# Altium schematic symbol library Power and Battery Management.SchLib: 645 symbols (part 3 of 15)
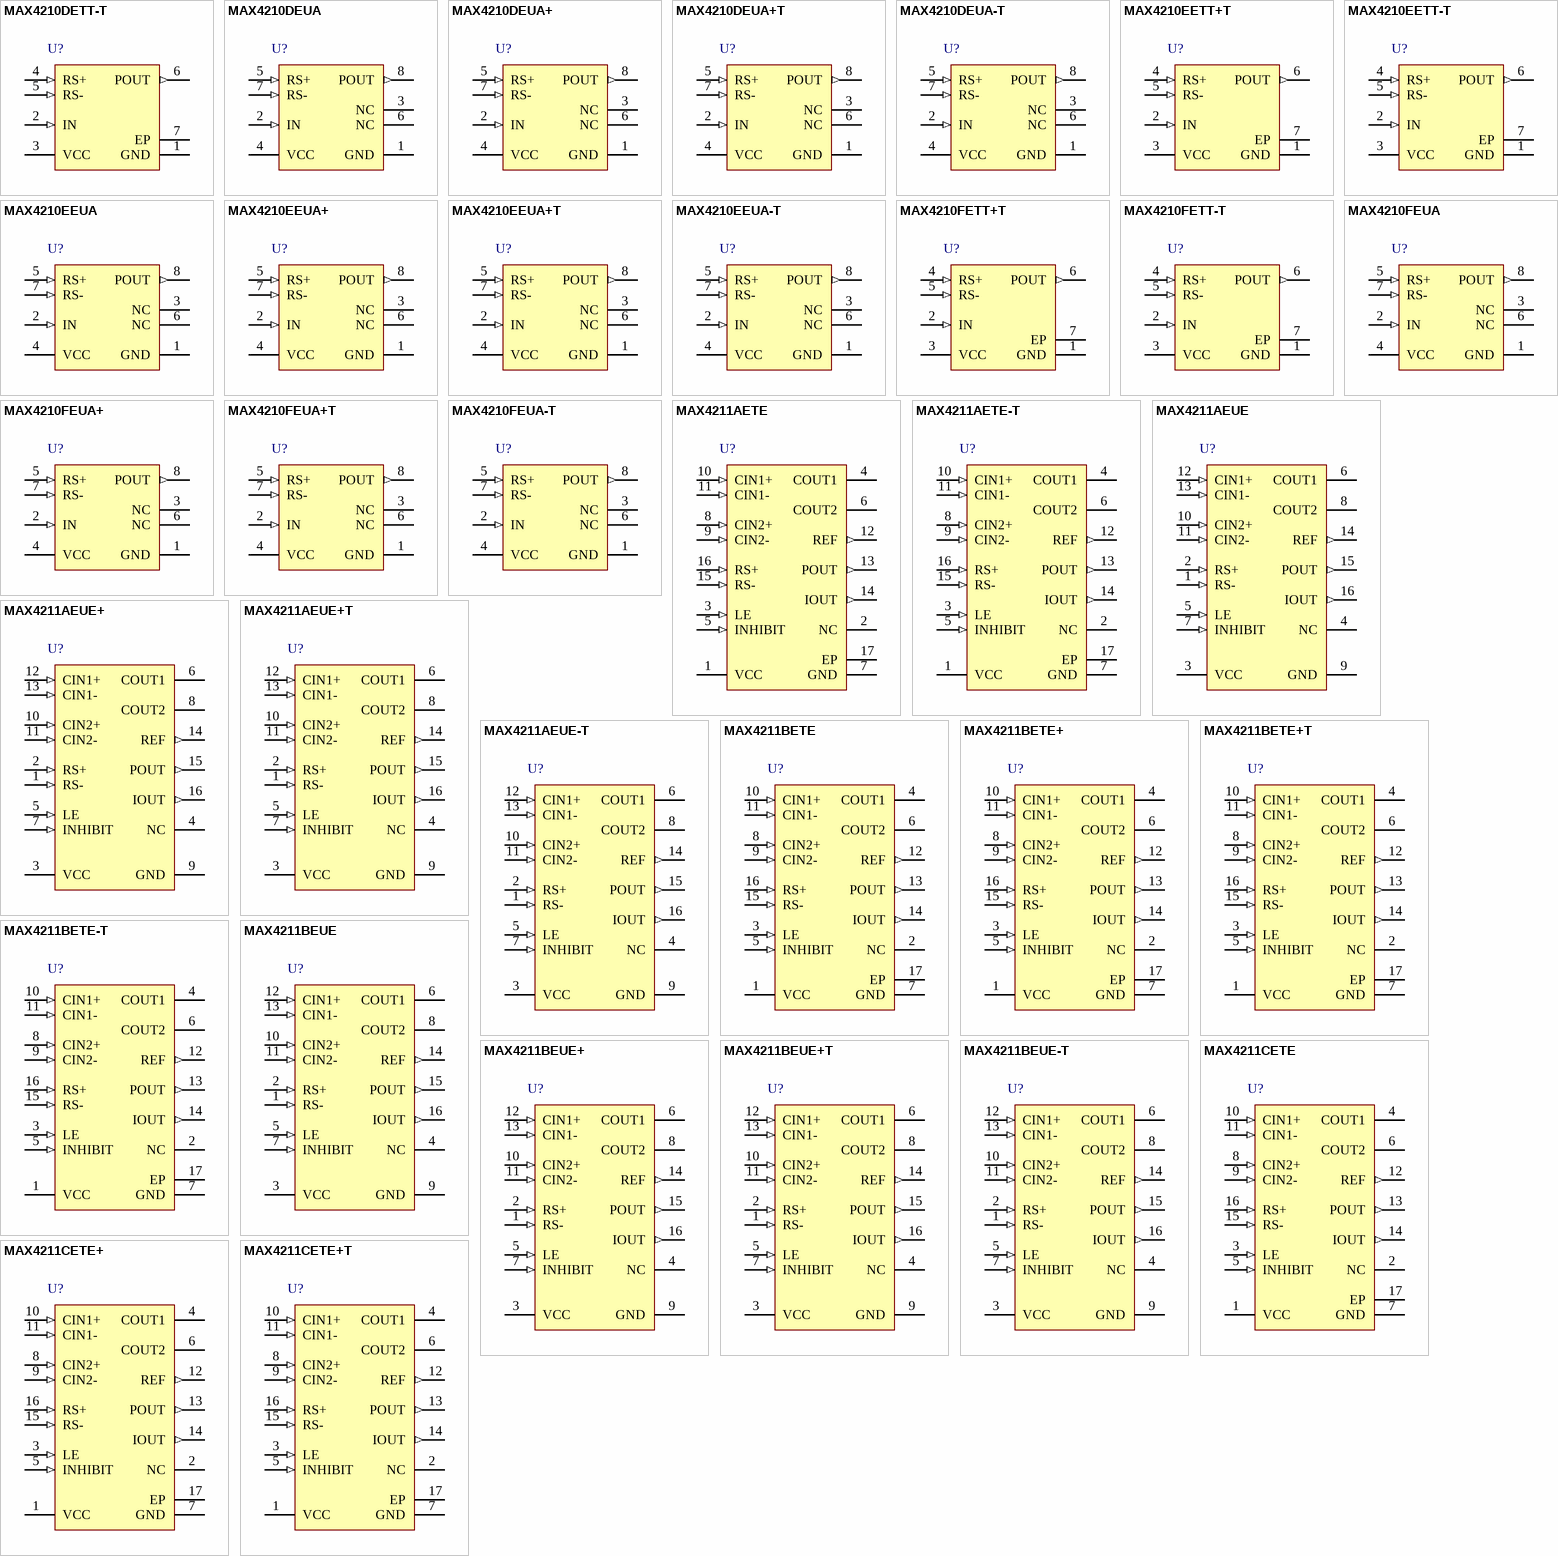
[diagram p21: symbols MAX4210DETT-T to MAX4211CETE+T]

## MAX4211AETE-T
designator U?
High-Side Power Monitor, Open-Drain Outputs, 16-Pin TQFN, -40°C to +85°C, Tape and Reel; DatasheetVersion: Rev 1, May-2005; PackageVersion: revJ, 2011; PackageReference: T1644-4; PackageDescription: 16-Pin Thin Quad Flatpack, No-Leads (TQFN), 4 x 4 x 0.75 mm Body, 0.65 mm Pitch, Exposed Pad; Code_JEDEC: MO-220WGGC; ComponentLink1Description: Manufacturer URL; ComponentLink1URL: http://www.maxim-ic.com; ComponentLink2Description: Datasheet; ComponentLink2URL: http://datasheets.maxim-ic.com/en/ds/MAX4210-MAX4211.pdf; ComponentLink3Description: Package Specification; ComponentLink3URL: http://pdfserv.maxim-ic.com/package_dwgs/21-0139.PDF
footprint T1644-4_N (QFN, 16-Leads, Body 4x4mm, Pitch 0.65mm, Thermal Pad 2.3x2.3mm, IPC Medium Density)
footprint T1644-4_L (QFN, 16-Leads, Body 4x4mm, Pitch 0.65mm, Thermal Pad 2.3x2.3mm, IPC High Density)
footprint T1644-4_M (QFN, 16-Leads, Body 4x4mm, Pitch 0.65mm, Thermal Pad 2.3x2.3mm, IPC Low Density)
pins: 1 VCC (power), 2 NC, 3 LE (in), 4 COUT1 (oc), 5 INHIBIT (in), 6 COUT2 (oc), 7 GND (power), 8 CIN2+ (in), 9 CIN2- (in), 10 CIN1+ (in), 11 CIN1- (in), 12 REF (out), 13 POUT (out), 14 IOUT (out), 15 RS- (in), 16 RS+ (in), 17 EP (power)

## MAX4211AEUE
designator U?
High-Side Power Monitor, Open-Drain Outputs, 16-Pin TSSOP, -40°C to +85°C; DatasheetVersion: Rev 1, May-2005; PackageVersion: revL, 2010; PackageReference: U16-2; PackageDescription: 16-Pin Thin Shrink Small-Outline Package, 4.4 mm Body, TSSOP; Code_JEDEC: MO-153-AB; ComponentLink1Description: Manufacturer URL; ComponentLink1URL: http://www.maxim-ic.com; ComponentLink2Description: Datasheet; ComponentLink2URL: http://datasheets.maxim-ic.com/en/ds/MAX4210-MAX4211.pdf; ComponentLink3Description: Package Specification; ComponentLink3URL: http://pdfserv.maxim-ic.com/package_dwgs/21-0066.PDF
footprint U16-2_N (TSOP, 14-Leads, Body 5x4.4mm, Pitch 0.65mm, IPC Medium Density)
footprint U16-2_L (TSOP, 14-Leads, Body 5x4.4mm, Pitch 0.65mm, IPC High Density)
footprint U16-2_M (TSOP, 14-Leads, Body 5x4.4mm, Pitch 0.65mm, IPC Low Density)
pins: 1 RS- (in), 2 RS+ (in), 3 VCC (power), 4 NC, 5 LE (in), 6 COUT1 (oc), 7 INHIBIT (in), 8 COUT2 (oc), 9 GND (power), 10 CIN2+ (in), 11 CIN2- (in), 12 CIN1+ (in), 13 CIN1- (in), 14 REF (out), 15 POUT (out), 16 IOUT (out)

## MAX4211AEUE+
designator U?
High-Side Power Monitor, Open-Drain Outputs, 16-Pin TSSOP, -40°C to +85°C, Pb-Free; DatasheetVersion: Rev 1, May-2005; PackageVersion: revL, 2010; PackageReference: U16+2; PackageDescription: 16-Pin Thin Shrink Small-Outline Package, 4.4 mm Body, TSSOP, Pb-Free; Code_JEDEC: MO-153-AB; ComponentLink1Description: Manufacturer URL; ComponentLink1URL: http://www.maxim-ic.com; ComponentLink2Description: Datasheet; ComponentLink2URL: http://datasheets.maxim-ic.com/en/ds/MAX4210-MAX4211.pdf; ComponentLink3Description: Package Specification; ComponentLink3URL: http://pdfserv.maxim-ic.com/package_dwgs/21-0066.PDF
footprint U16+2_N (TSOP, 14-Leads, Body 5x4.4mm, Pitch 0.65mm, IPC Medium Density)
footprint U16+2_L (TSOP, 14-Leads, Body 5x4.4mm, Pitch 0.65mm, IPC High Density)
footprint U16+2_M (TSOP, 14-Leads, Body 5x4.4mm, Pitch 0.65mm, IPC Low Density)
pins: 1 RS- (in), 2 RS+ (in), 3 VCC (power), 4 NC, 5 LE (in), 6 COUT1 (oc), 7 INHIBIT (in), 8 COUT2 (oc), 9 GND (power), 10 CIN2+ (in), 11 CIN2- (in), 12 CIN1+ (in), 13 CIN1- (in), 14 REF (out), 15 POUT (out), 16 IOUT (out)

## MAX4211AEUE+T
designator U?
High-Side Power Monitor, Open-Drain Outputs, 16-Pin TSSOP, -40°C to +85°C, Pb-Free, Tape and Reel; DatasheetVersion: Rev 1, May-2005; PackageVersion: revL, 2010; PackageReference: U16+2; PackageDescription: 16-Pin Thin Shrink Small-Outline Package, 4.4 mm Body, TSSOP, Pb-Free; Code_JEDEC: MO-153-AB; ComponentLink1Description: Manufacturer URL; ComponentLink1URL: http://www.maxim-ic.com; ComponentLink2Description: Datasheet; ComponentLink2URL: http://datasheets.maxim-ic.com/en/ds/MAX4210-MAX4211.pdf; ComponentLink3Description: Package Specification; ComponentLink3URL: http://pdfserv.maxim-ic.com/package_dwgs/21-0066.PDF
footprint U16+2_N (TSOP, 14-Leads, Body 5x4.4mm, Pitch 0.65mm, IPC Medium Density)
footprint U16+2_L (TSOP, 14-Leads, Body 5x4.4mm, Pitch 0.65mm, IPC High Density)
footprint U16+2_M (TSOP, 14-Leads, Body 5x4.4mm, Pitch 0.65mm, IPC Low Density)
pins: 1 RS- (in), 2 RS+ (in), 3 VCC (power), 4 NC, 5 LE (in), 6 COUT1 (oc), 7 INHIBIT (in), 8 COUT2 (oc), 9 GND (power), 10 CIN2+ (in), 11 CIN2- (in), 12 CIN1+ (in), 13 CIN1- (in), 14 REF (out), 15 POUT (out), 16 IOUT (out)

## MAX4211AEUE-T
designator U?
High-Side Power Monitor, Open-Drain Outputs, 16-Pin TSSOP, -40°C to +85°C, Tape and Reel; DatasheetVersion: Rev 1, May-2005; PackageVersion: revL, 2010; PackageReference: U16-2; PackageDescription: 16-Pin Thin Shrink Small-Outline Package, 4.4 mm Body, TSSOP; Code_JEDEC: MO-153-AB; ComponentLink1Description: Manufacturer URL; ComponentLink1URL: http://www.maxim-ic.com; ComponentLink2Description: Datasheet; ComponentLink2URL: http://datasheets.maxim-ic.com/en/ds/MAX4210-MAX4211.pdf; ComponentLink3Description: Package Specification; ComponentLink3URL: http://pdfserv.maxim-ic.com/package_dwgs/21-0066.PDF
footprint U16-2_N (TSOP, 14-Leads, Body 5x4.4mm, Pitch 0.65mm, IPC Medium Density)
footprint U16-2_L (TSOP, 14-Leads, Body 5x4.4mm, Pitch 0.65mm, IPC High Density)
footprint U16-2_M (TSOP, 14-Leads, Body 5x4.4mm, Pitch 0.65mm, IPC Low Density)
pins: 1 RS- (in), 2 RS+ (in), 3 VCC (power), 4 NC, 5 LE (in), 6 COUT1 (oc), 7 INHIBIT (in), 8 COUT2 (oc), 9 GND (power), 10 CIN2+ (in), 11 CIN2- (in), 12 CIN1+ (in), 13 CIN1- (in), 14 REF (out), 15 POUT (out), 16 IOUT (out)

## MAX4211BETE
designator U?
High-Side Power Monitor, Open-Drain Outputs, 16-Pin TQFN, -40°C to +85°C; DatasheetVersion: Rev 1, May-2005; PackageVersion: revJ, 2011; PackageReference: T1644-4; PackageDescription: 16-Pin Thin Quad Flatpack, No-Leads (TQFN), 4 x 4 x 0.75 mm Body, 0.65 mm Pitch, Exposed Pad; Code_JEDEC: MO-220WGGC; ComponentLink1Description: Manufacturer URL; ComponentLink1URL: http://www.maxim-ic.com; ComponentLink2Description: Datasheet; ComponentLink2URL: http://datasheets.maxim-ic.com/en/ds/MAX4210-MAX4211.pdf; ComponentLink3Description: Package Specification; ComponentLink3URL: http://pdfserv.maxim-ic.com/package_dwgs/21-0139.PDF
footprint T1644-4_N (QFN, 16-Leads, Body 4x4mm, Pitch 0.65mm, Thermal Pad 2.3x2.3mm, IPC Medium Density)
footprint T1644-4_L (QFN, 16-Leads, Body 4x4mm, Pitch 0.65mm, Thermal Pad 2.3x2.3mm, IPC High Density)
footprint T1644-4_M (QFN, 16-Leads, Body 4x4mm, Pitch 0.65mm, Thermal Pad 2.3x2.3mm, IPC Low Density)
pins: 1 VCC (power), 2 NC, 3 LE (in), 4 COUT1 (oc), 5 INHIBIT (in), 6 COUT2 (oc), 7 GND (power), 8 CIN2+ (in), 9 CIN2- (in), 10 CIN1+ (in), 11 CIN1- (in), 12 REF (out), 13 POUT (out), 14 IOUT (out), 15 RS- (in), 16 RS+ (in), 17 EP (power)

## MAX4211BETE+
designator U?
High-Side Power Monitor, Open-Drain Outputs, 16-Pin TQFN, -40°C to +85°C, Pb-Free; DatasheetVersion: Rev 1, May-2005; PackageVersion: revK, 2011; PackageReference: T1644+4; PackageDescription: 16-Pin Thin Quad Flatpack, No-Leads (TQFN), 4 x 4 x 0.75 mm Body, 0.65 mm Pitch, Exposed Pad, Pb-Free; Code_JEDEC: MO-220WGGC; ComponentLink1Description: Manufacturer URL; ComponentLink1URL: http://www.maxim-ic.com; ComponentLink2Description: Datasheet; ComponentLink2URL: http://datasheets.maxim-ic.com/en/ds/MAX4210-MAX4211.pdf; ComponentLink3Description: Package Specification; ComponentLink3URL: http://pdfserv.maxim-ic.com/package_dwgs/21-0139.PDF
footprint T1644+4_N (QFN, 16-Leads, Body 4x4mm, Pitch 0.65mm, Thermal Pad 2.3x2.3mm, IPC Medium Density)
footprint T1644+4_L (QFN, 16-Leads, Body 4x4mm, Pitch 0.65mm, Thermal Pad 2.3x2.3mm, IPC High Density)
footprint T1644+4_M (QFN, 16-Leads, Body 4x4mm, Pitch 0.65mm, Thermal Pad 2.3x2.3mm, IPC Low Density)
pins: 1 VCC (power), 2 NC, 3 LE (in), 4 COUT1 (oc), 5 INHIBIT (in), 6 COUT2 (oc), 7 GND (power), 8 CIN2+ (in), 9 CIN2- (in), 10 CIN1+ (in), 11 CIN1- (in), 12 REF (out), 13 POUT (out), 14 IOUT (out), 15 RS- (in), 16 RS+ (in), 17 EP (power)

## MAX4211BETE+T
designator U?
High-Side Power Monitor, Open-Drain Outputs, 16-Pin TQFN, -40°C to +85°C, Pb-Free, Tape and Reel; DatasheetVersion: Rev 1, May-2005; PackageVersion: revK, 2011; PackageReference: T1644+4; PackageDescription: 16-Pin Thin Quad Flatpack, No-Leads (TQFN), 4 x 4 x 0.75 mm Body, 0.65 mm Pitch, Exposed Pad, Pb-Free; Code_JEDEC: MO-220WGGC; ComponentLink1Description: Manufacturer URL; ComponentLink1URL: http://www.maxim-ic.com; ComponentLink2Description: Datasheet; ComponentLink2URL: http://datasheets.maxim-ic.com/en/ds/MAX4210-MAX4211.pdf; ComponentLink3Description: Package Specification; ComponentLink3URL: http://pdfserv.maxim-ic.com/package_dwgs/21-0139.PDF
footprint T1644+4_N (QFN, 16-Leads, Body 4x4mm, Pitch 0.65mm, Thermal Pad 2.3x2.3mm, IPC Medium Density)
footprint T1644+4_L (QFN, 16-Leads, Body 4x4mm, Pitch 0.65mm, Thermal Pad 2.3x2.3mm, IPC High Density)
footprint T1644+4_M (QFN, 16-Leads, Body 4x4mm, Pitch 0.65mm, Thermal Pad 2.3x2.3mm, IPC Low Density)
pins: 1 VCC (power), 2 NC, 3 LE (in), 4 COUT1 (oc), 5 INHIBIT (in), 6 COUT2 (oc), 7 GND (power), 8 CIN2+ (in), 9 CIN2- (in), 10 CIN1+ (in), 11 CIN1- (in), 12 REF (out), 13 POUT (out), 14 IOUT (out), 15 RS- (in), 16 RS+ (in), 17 EP (power)

## MAX4211BETE-T
designator U?
High-Side Power Monitor, Open-Drain Outputs, 16-Pin TQFN, -40°C to +85°C, Tape and Reel; DatasheetVersion: Rev 1, May-2005; PackageVersion: revJ, 2011; PackageReference: T1644-4; PackageDescription: 16-Pin Thin Quad Flatpack, No-Leads (TQFN), 4 x 4 x 0.75 mm Body, 0.65 mm Pitch, Exposed Pad; Code_JEDEC: MO-220WGGC; ComponentLink1Description: Manufacturer URL; ComponentLink1URL: http://www.maxim-ic.com; ComponentLink2Description: Datasheet; ComponentLink2URL: http://datasheets.maxim-ic.com/en/ds/MAX4210-MAX4211.pdf; ComponentLink3Description: Package Specification; ComponentLink3URL: http://pdfserv.maxim-ic.com/package_dwgs/21-0139.PDF
footprint T1644-4_N (QFN, 16-Leads, Body 4x4mm, Pitch 0.65mm, Thermal Pad 2.3x2.3mm, IPC Medium Density)
footprint T1644-4_L (QFN, 16-Leads, Body 4x4mm, Pitch 0.65mm, Thermal Pad 2.3x2.3mm, IPC High Density)
footprint T1644-4_M (QFN, 16-Leads, Body 4x4mm, Pitch 0.65mm, Thermal Pad 2.3x2.3mm, IPC Low Density)
pins: 1 VCC (power), 2 NC, 3 LE (in), 4 COUT1 (oc), 5 INHIBIT (in), 6 COUT2 (oc), 7 GND (power), 8 CIN2+ (in), 9 CIN2- (in), 10 CIN1+ (in), 11 CIN1- (in), 12 REF (out), 13 POUT (out), 14 IOUT (out), 15 RS- (in), 16 RS+ (in), 17 EP (power)

## MAX4211BEUE
designator U?
High-Side Power Monitor, Open-Drain Outputs, 16-Pin TSSOP, -40°C to +85°C; DatasheetVersion: Rev 1, May-2005; PackageVersion: revL, 2010; PackageReference: U16-2; PackageDescription: 16-Pin Thin Shrink Small-Outline Package, 4.4 mm Body, TSSOP; Code_JEDEC: MO-153-AB; ComponentLink1Description: Manufacturer URL; ComponentLink1URL: http://www.maxim-ic.com; ComponentLink2Description: Datasheet; ComponentLink2URL: http://datasheets.maxim-ic.com/en/ds/MAX4210-MAX4211.pdf; ComponentLink3Description: Package Specification; ComponentLink3URL: http://pdfserv.maxim-ic.com/package_dwgs/21-0066.PDF
footprint U16-2_N (TSOP, 14-Leads, Body 5x4.4mm, Pitch 0.65mm, IPC Medium Density)
footprint U16-2_L (TSOP, 14-Leads, Body 5x4.4mm, Pitch 0.65mm, IPC High Density)
footprint U16-2_M (TSOP, 14-Leads, Body 5x4.4mm, Pitch 0.65mm, IPC Low Density)
pins: 1 RS- (in), 2 RS+ (in), 3 VCC (power), 4 NC, 5 LE (in), 6 COUT1 (oc), 7 INHIBIT (in), 8 COUT2 (oc), 9 GND (power), 10 CIN2+ (in), 11 CIN2- (in), 12 CIN1+ (in), 13 CIN1- (in), 14 REF (out), 15 POUT (out), 16 IOUT (out)

## MAX4211BEUE+
designator U?
High-Side Power Monitor, Open-Drain Outputs, 16-Pin TSSOP, -40°C to +85°C, Pb-Free; DatasheetVersion: Rev 1, May-2005; PackageVersion: revL, 2010; PackageReference: U16+2; PackageDescription: 16-Pin Thin Shrink Small-Outline Package, 4.4 mm Body, TSSOP, Pb-Free; Code_JEDEC: MO-153-AB; ComponentLink1Description: Manufacturer URL; ComponentLink1URL: http://www.maxim-ic.com; ComponentLink2Description: Datasheet; ComponentLink2URL: http://datasheets.maxim-ic.com/en/ds/MAX4210-MAX4211.pdf; ComponentLink3Description: Package Specification; ComponentLink3URL: http://pdfserv.maxim-ic.com/package_dwgs/21-0066.PDF
footprint U16+2_N (TSOP, 14-Leads, Body 5x4.4mm, Pitch 0.65mm, IPC Medium Density)
footprint U16+2_L (TSOP, 14-Leads, Body 5x4.4mm, Pitch 0.65mm, IPC High Density)
footprint U16+2_M (TSOP, 14-Leads, Body 5x4.4mm, Pitch 0.65mm, IPC Low Density)
pins: 1 RS- (in), 2 RS+ (in), 3 VCC (power), 4 NC, 5 LE (in), 6 COUT1 (oc), 7 INHIBIT (in), 8 COUT2 (oc), 9 GND (power), 10 CIN2+ (in), 11 CIN2- (in), 12 CIN1+ (in), 13 CIN1- (in), 14 REF (out), 15 POUT (out), 16 IOUT (out)

## MAX4211BEUE+T
designator U?
High-Side Power Monitor, Open-Drain Outputs, 16-Pin TSSOP, -40°C to +85°C, Pb-Free, Tape and Reel; DatasheetVersion: Rev 1, May-2005; PackageVersion: revL, 2010; PackageReference: U16+2; PackageDescription: 16-Pin Thin Shrink Small-Outline Package, 4.4 mm Body, TSSOP, Pb-Free; Code_JEDEC: MO-153-AB; ComponentLink1Description: Manufacturer URL; ComponentLink1URL: http://www.maxim-ic.com; ComponentLink2Description: Datasheet; ComponentLink2URL: http://datasheets.maxim-ic.com/en/ds/MAX4210-MAX4211.pdf; ComponentLink3Description: Package Specification; ComponentLink3URL: http://pdfserv.maxim-ic.com/package_dwgs/21-0066.PDF
footprint U16+2_N (TSOP, 14-Leads, Body 5x4.4mm, Pitch 0.65mm, IPC Medium Density)
footprint U16+2_L (TSOP, 14-Leads, Body 5x4.4mm, Pitch 0.65mm, IPC High Density)
footprint U16+2_M (TSOP, 14-Leads, Body 5x4.4mm, Pitch 0.65mm, IPC Low Density)
pins: 1 RS- (in), 2 RS+ (in), 3 VCC (power), 4 NC, 5 LE (in), 6 COUT1 (oc), 7 INHIBIT (in), 8 COUT2 (oc), 9 GND (power), 10 CIN2+ (in), 11 CIN2- (in), 12 CIN1+ (in), 13 CIN1- (in), 14 REF (out), 15 POUT (out), 16 IOUT (out)

## MAX4211BEUE-T
designator U?
High-Side Power Monitor, Open-Drain Outputs, 16-Pin TSSOP, -40°C to +85°C, Tape and Reel; DatasheetVersion: Rev 1, May-2005; PackageVersion: revL, 2010; PackageReference: U16-2; PackageDescription: 16-Pin Thin Shrink Small-Outline Package, 4.4 mm Body, TSSOP; Code_JEDEC: MO-153-AB; ComponentLink1Description: Manufacturer URL; ComponentLink1URL: http://www.maxim-ic.com; ComponentLink2Description: Datasheet; ComponentLink2URL: http://datasheets.maxim-ic.com/en/ds/MAX4210-MAX4211.pdf; ComponentLink3Description: Package Specification; ComponentLink3URL: http://pdfserv.maxim-ic.com/package_dwgs/21-0066.PDF
footprint U16-2_N (TSOP, 14-Leads, Body 5x4.4mm, Pitch 0.65mm, IPC Medium Density)
footprint U16-2_L (TSOP, 14-Leads, Body 5x4.4mm, Pitch 0.65mm, IPC High Density)
footprint U16-2_M (TSOP, 14-Leads, Body 5x4.4mm, Pitch 0.65mm, IPC Low Density)
pins: 1 RS- (in), 2 RS+ (in), 3 VCC (power), 4 NC, 5 LE (in), 6 COUT1 (oc), 7 INHIBIT (in), 8 COUT2 (oc), 9 GND (power), 10 CIN2+ (in), 11 CIN2- (in), 12 CIN1+ (in), 13 CIN1- (in), 14 REF (out), 15 POUT (out), 16 IOUT (out)

## MAX4211CETE
designator U?
High-Side Power Monitor, Open-Drain Outputs, 16-Pin TQFN, -40°C to +85°C; DatasheetVersion: Rev 1, May-2005; PackageVersion: revJ, 2011; PackageReference: T1644-4; PackageDescription: 16-Pin Thin Quad Flatpack, No-Leads (TQFN), 4 x 4 x 0.75 mm Body, 0.65 mm Pitch, Exposed Pad; Code_JEDEC: MO-220WGGC; ComponentLink1Description: Manufacturer URL; ComponentLink1URL: http://www.maxim-ic.com; ComponentLink2Description: Datasheet; ComponentLink2URL: http://datasheets.maxim-ic.com/en/ds/MAX4210-MAX4211.pdf; ComponentLink3Description: Package Specification; ComponentLink3URL: http://pdfserv.maxim-ic.com/package_dwgs/21-0139.PDF
footprint T1644-4_N (QFN, 16-Leads, Body 4x4mm, Pitch 0.65mm, Thermal Pad 2.3x2.3mm, IPC Medium Density)
footprint T1644-4_L (QFN, 16-Leads, Body 4x4mm, Pitch 0.65mm, Thermal Pad 2.3x2.3mm, IPC High Density)
footprint T1644-4_M (QFN, 16-Leads, Body 4x4mm, Pitch 0.65mm, Thermal Pad 2.3x2.3mm, IPC Low Density)
pins: 1 VCC (power), 2 NC, 3 LE (in), 4 COUT1 (oc), 5 INHIBIT (in), 6 COUT2 (oc), 7 GND (power), 8 CIN2+ (in), 9 CIN2- (in), 10 CIN1+ (in), 11 CIN1- (in), 12 REF (out), 13 POUT (out), 14 IOUT (out), 15 RS- (in), 16 RS+ (in), 17 EP (power)

## MAX4211CETE+
designator U?
High-Side Power Monitor, Open-Drain Outputs, 16-Pin TQFN, -40°C to +85°C, Pb-Free; DatasheetVersion: Rev 1, May-2005; PackageVersion: revK, 2011; PackageReference: T1644+4; PackageDescription: 16-Pin Thin Quad Flatpack, No-Leads (TQFN), 4 x 4 x 0.75 mm Body, 0.65 mm Pitch, Exposed Pad, Pb-Free; Code_JEDEC: MO-220WGGC; ComponentLink1Description: Manufacturer URL; ComponentLink1URL: http://www.maxim-ic.com; ComponentLink2Description: Datasheet; ComponentLink2URL: http://datasheets.maxim-ic.com/en/ds/MAX4210-MAX4211.pdf; ComponentLink3Description: Package Specification; ComponentLink3URL: http://pdfserv.maxim-ic.com/package_dwgs/21-0139.PDF
footprint T1644+4_N (QFN, 16-Leads, Body 4x4mm, Pitch 0.65mm, Thermal Pad 2.3x2.3mm, IPC Medium Density)
footprint T1644+4_L (QFN, 16-Leads, Body 4x4mm, Pitch 0.65mm, Thermal Pad 2.3x2.3mm, IPC High Density)
footprint T1644+4_M (QFN, 16-Leads, Body 4x4mm, Pitch 0.65mm, Thermal Pad 2.3x2.3mm, IPC Low Density)
pins: 1 VCC (power), 2 NC, 3 LE (in), 4 COUT1 (oc), 5 INHIBIT (in), 6 COUT2 (oc), 7 GND (power), 8 CIN2+ (in), 9 CIN2- (in), 10 CIN1+ (in), 11 CIN1- (in), 12 REF (out), 13 POUT (out), 14 IOUT (out), 15 RS- (in), 16 RS+ (in), 17 EP (power)

## MAX4211CETE+T
designator U?
High-Side Power Monitor, Open-Drain Outputs, 16-Pin TQFN, -40°C to +85°C, Pb-Free, Tape and Reel; DatasheetVersion: Rev 1, May-2005; PackageVersion: revK, 2011; PackageReference: T1644+4; PackageDescription: 16-Pin Thin Quad Flatpack, No-Leads (TQFN), 4 x 4 x 0.75 mm Body, 0.65 mm Pitch, Exposed Pad, Pb-Free; Code_JEDEC: MO-220WGGC; ComponentLink1Description: Manufacturer URL; ComponentLink1URL: http://www.maxim-ic.com; ComponentLink2Description: Datasheet; ComponentLink2URL: http://datasheets.maxim-ic.com/en/ds/MAX4210-MAX4211.pdf; ComponentLink3Description: Package Specification; ComponentLink3URL: http://pdfserv.maxim-ic.com/package_dwgs/21-0139.PDF
footprint T1644+4_N (QFN, 16-Leads, Body 4x4mm, Pitch 0.65mm, Thermal Pad 2.3x2.3mm, IPC Medium Density)
footprint T1644+4_L (QFN, 16-Leads, Body 4x4mm, Pitch 0.65mm, Thermal Pad 2.3x2.3mm, IPC High Density)
footprint T1644+4_M (QFN, 16-Leads, Body 4x4mm, Pitch 0.65mm, Thermal Pad 2.3x2.3mm, IPC Low Density)
pins: 1 VCC (power), 2 NC, 3 LE (in), 4 COUT1 (oc), 5 INHIBIT (in), 6 COUT2 (oc), 7 GND (power), 8 CIN2+ (in), 9 CIN2- (in), 10 CIN1+ (in), 11 CIN1- (in), 12 REF (out), 13 POUT (out), 14 IOUT (out), 15 RS- (in), 16 RS+ (in), 17 EP (power)

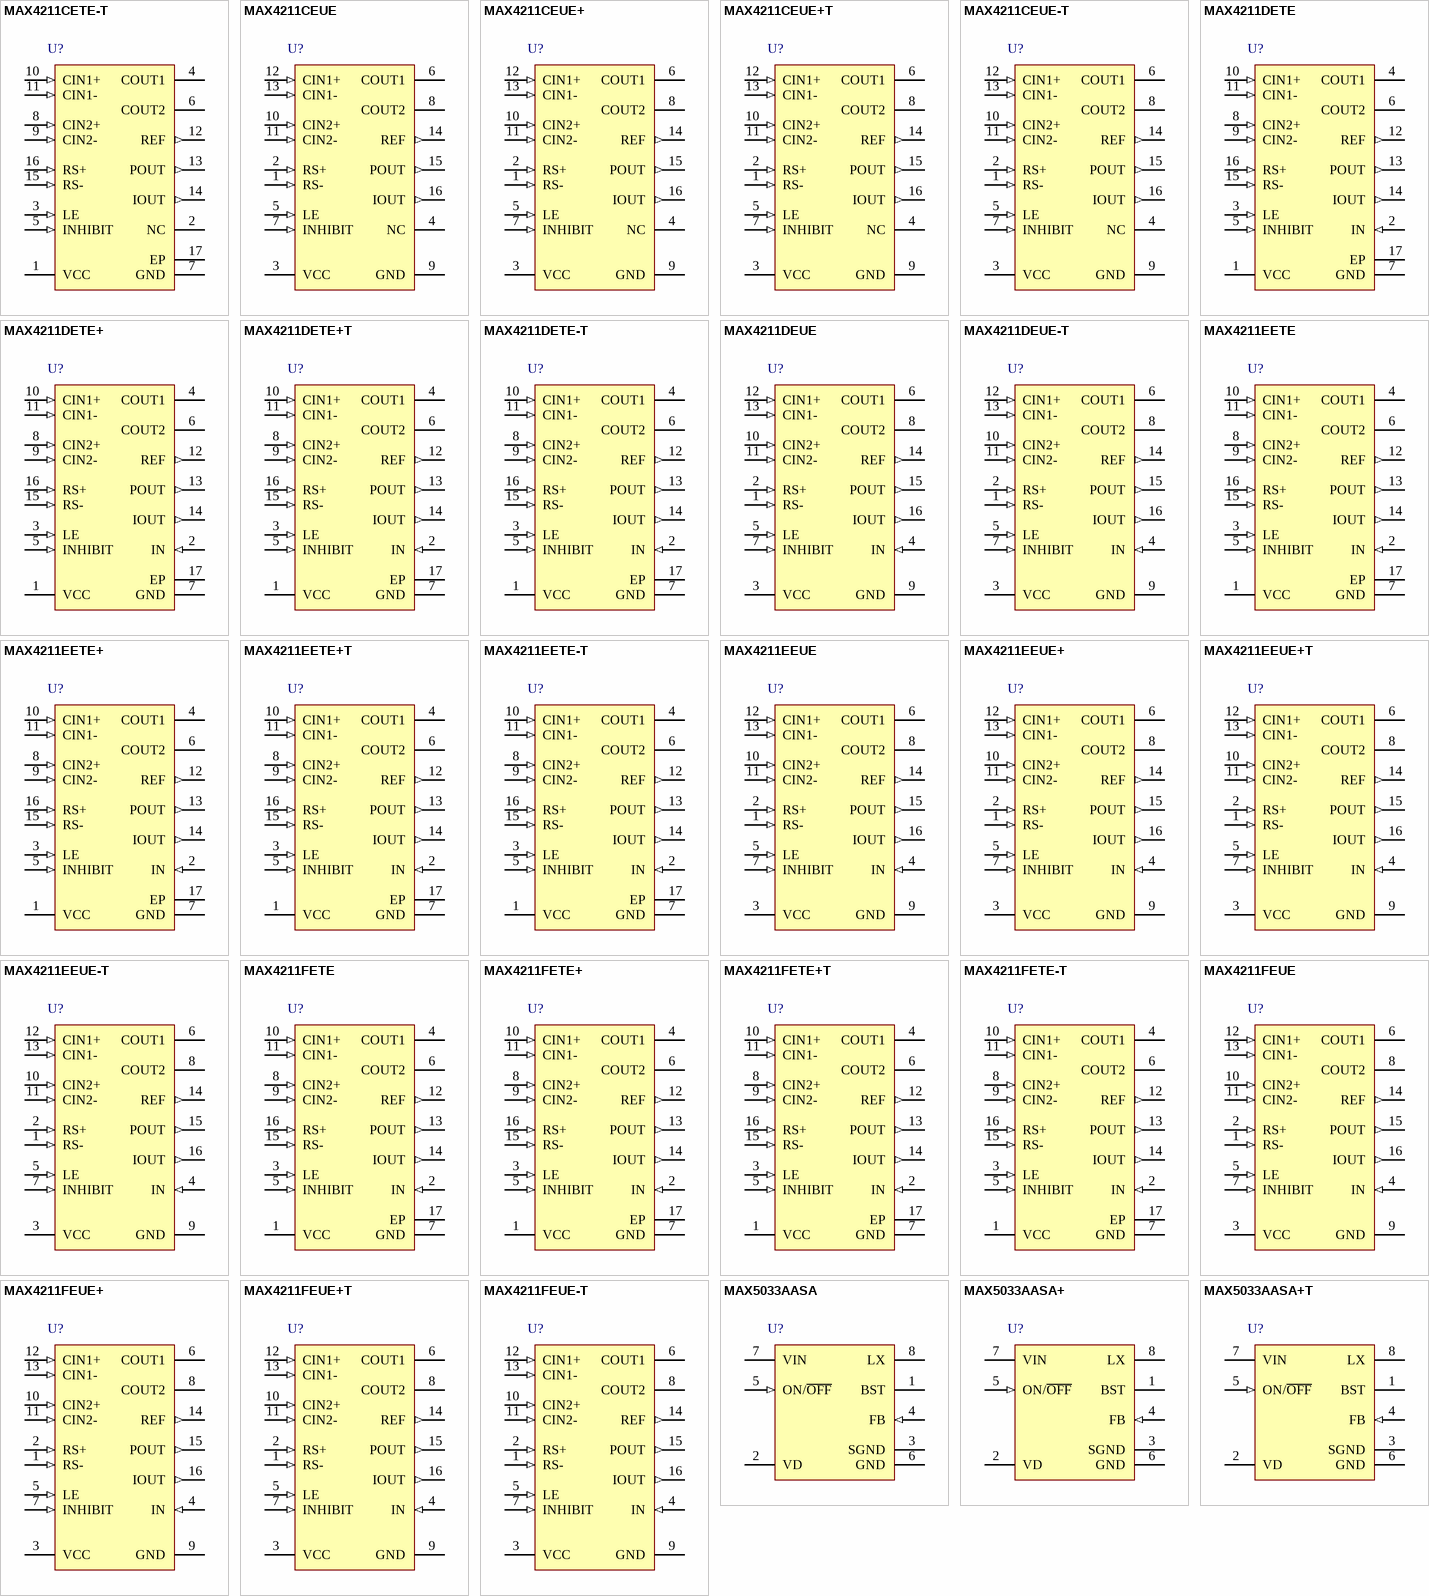
[diagram p3: symbols MAX4211CETE-T to MAX5033AASA+T]

## MAX4211CETE-T
designator U?
High-Side Power Monitor, Open-Drain Outputs, 16-Pin TQFN, -40°C to +85°C, Tape and Reel; DatasheetVersion: Rev 1, May-2005; PackageVersion: revJ, 2011; PackageReference: T1644-4; PackageDescription: 16-Pin Thin Quad Flatpack, No-Leads (TQFN), 4 x 4 x 0.75 mm Body, 0.65 mm Pitch, Exposed Pad; Code_JEDEC: MO-220WGGC; ComponentLink1Description: Manufacturer URL; ComponentLink1URL: http://www.maxim-ic.com; ComponentLink2Description: Datasheet; ComponentLink2URL: http://datasheets.maxim-ic.com/en/ds/MAX4210-MAX4211.pdf; ComponentLink3Description: Package Specification; ComponentLink3URL: http://pdfserv.maxim-ic.com/package_dwgs/21-0139.PDF
footprint T1644-4_N (QFN, 16-Leads, Body 4x4mm, Pitch 0.65mm, Thermal Pad 2.3x2.3mm, IPC Medium Density)
footprint T1644-4_L (QFN, 16-Leads, Body 4x4mm, Pitch 0.65mm, Thermal Pad 2.3x2.3mm, IPC High Density)
footprint T1644-4_M (QFN, 16-Leads, Body 4x4mm, Pitch 0.65mm, Thermal Pad 2.3x2.3mm, IPC Low Density)
pins: 1 VCC (power), 2 NC, 3 LE (in), 4 COUT1 (oc), 5 INHIBIT (in), 6 COUT2 (oc), 7 GND (power), 8 CIN2+ (in), 9 CIN2- (in), 10 CIN1+ (in), 11 CIN1- (in), 12 REF (out), 13 POUT (out), 14 IOUT (out), 15 RS- (in), 16 RS+ (in), 17 EP (power)

## MAX4211CEUE
designator U?
High-Side Power Monitor, Open-Drain Outputs, 16-Pin TSSOP, -40°C to +85°C; DatasheetVersion: Rev 1, May-2005; PackageVersion: revL, 2010; PackageReference: U16-2; PackageDescription: 16-Pin Thin Shrink Small-Outline Package, 4.4 mm Body, TSSOP; Code_JEDEC: MO-153-AB; ComponentLink1Description: Manufacturer URL; ComponentLink1URL: http://www.maxim-ic.com; ComponentLink2Description: Datasheet; ComponentLink2URL: http://datasheets.maxim-ic.com/en/ds/MAX4210-MAX4211.pdf; ComponentLink3Description: Package Specification; ComponentLink3URL: http://pdfserv.maxim-ic.com/package_dwgs/21-0066.PDF
footprint U16-2_N (TSOP, 14-Leads, Body 5x4.4mm, Pitch 0.65mm, IPC Medium Density)
footprint U16-2_L (TSOP, 14-Leads, Body 5x4.4mm, Pitch 0.65mm, IPC High Density)
footprint U16-2_M (TSOP, 14-Leads, Body 5x4.4mm, Pitch 0.65mm, IPC Low Density)
pins: 1 RS- (in), 2 RS+ (in), 3 VCC (power), 4 NC, 5 LE (in), 6 COUT1 (oc), 7 INHIBIT (in), 8 COUT2 (oc), 9 GND (power), 10 CIN2+ (in), 11 CIN2- (in), 12 CIN1+ (in), 13 CIN1- (in), 14 REF (out), 15 POUT (out), 16 IOUT (out)

## MAX4211CEUE+
designator U?
High-Side Power Monitor, Open-Drain Outputs, 16-Pin TSSOP, -40°C to +85°C, Pb-Free; DatasheetVersion: Rev 1, May-2005; PackageVersion: revL, 2010; PackageReference: U16+2; PackageDescription: 16-Pin Thin Shrink Small-Outline Package, 4.4 mm Body, TSSOP, Pb-Free; Code_JEDEC: MO-153-AB; ComponentLink1Description: Manufacturer URL; ComponentLink1URL: http://www.maxim-ic.com; ComponentLink2Description: Datasheet; ComponentLink2URL: http://datasheets.maxim-ic.com/en/ds/MAX4210-MAX4211.pdf; ComponentLink3Description: Package Specification; ComponentLink3URL: http://pdfserv.maxim-ic.com/package_dwgs/21-0066.PDF
footprint U16+2_N (TSOP, 14-Leads, Body 5x4.4mm, Pitch 0.65mm, IPC Medium Density)
footprint U16+2_L (TSOP, 14-Leads, Body 5x4.4mm, Pitch 0.65mm, IPC High Density)
footprint U16+2_M (TSOP, 14-Leads, Body 5x4.4mm, Pitch 0.65mm, IPC Low Density)
pins: 1 RS- (in), 2 RS+ (in), 3 VCC (power), 4 NC, 5 LE (in), 6 COUT1 (oc), 7 INHIBIT (in), 8 COUT2 (oc), 9 GND (power), 10 CIN2+ (in), 11 CIN2- (in), 12 CIN1+ (in), 13 CIN1- (in), 14 REF (out), 15 POUT (out), 16 IOUT (out)

## MAX4211CEUE+T
designator U?
High-Side Power Monitor, Open-Drain Outputs, 16-Pin TSSOP, -40°C to +85°C, Pb-Free, Tape and Reel; DatasheetVersion: Rev 1, May-2005; PackageVersion: revL, 2010; PackageReference: U16+2; PackageDescription: 16-Pin Thin Shrink Small-Outline Package, 4.4 mm Body, TSSOP, Pb-Free; Code_JEDEC: MO-153-AB; ComponentLink1Description: Manufacturer URL; ComponentLink1URL: http://www.maxim-ic.com; ComponentLink2Description: Datasheet; ComponentLink2URL: http://datasheets.maxim-ic.com/en/ds/MAX4210-MAX4211.pdf; ComponentLink3Description: Package Specification; ComponentLink3URL: http://pdfserv.maxim-ic.com/package_dwgs/21-0066.PDF
footprint U16+2_N (TSOP, 14-Leads, Body 5x4.4mm, Pitch 0.65mm, IPC Medium Density)
footprint U16+2_L (TSOP, 14-Leads, Body 5x4.4mm, Pitch 0.65mm, IPC High Density)
footprint U16+2_M (TSOP, 14-Leads, Body 5x4.4mm, Pitch 0.65mm, IPC Low Density)
pins: 1 RS- (in), 2 RS+ (in), 3 VCC (power), 4 NC, 5 LE (in), 6 COUT1 (oc), 7 INHIBIT (in), 8 COUT2 (oc), 9 GND (power), 10 CIN2+ (in), 11 CIN2- (in), 12 CIN1+ (in), 13 CIN1- (in), 14 REF (out), 15 POUT (out), 16 IOUT (out)

## MAX4211CEUE-T
designator U?
High-Side Power Monitor, Open-Drain Outputs, 16-Pin TSSOP, -40°C to +85°C, Tape and Reel; DatasheetVersion: Rev 1, May-2005; PackageVersion: revL, 2010; PackageReference: U16-2; PackageDescription: 16-Pin Thin Shrink Small-Outline Package, 4.4 mm Body, TSSOP; Code_JEDEC: MO-153-AB; ComponentLink1Description: Manufacturer URL; ComponentLink1URL: http://www.maxim-ic.com; ComponentLink2Description: Datasheet; ComponentLink2URL: http://datasheets.maxim-ic.com/en/ds/MAX4210-MAX4211.pdf; ComponentLink3Description: Package Specification; ComponentLink3URL: http://pdfserv.maxim-ic.com/package_dwgs/21-0066.PDF
footprint U16-2_N (TSOP, 14-Leads, Body 5x4.4mm, Pitch 0.65mm, IPC Medium Density)
footprint U16-2_L (TSOP, 14-Leads, Body 5x4.4mm, Pitch 0.65mm, IPC High Density)
footprint U16-2_M (TSOP, 14-Leads, Body 5x4.4mm, Pitch 0.65mm, IPC Low Density)
pins: 1 RS- (in), 2 RS+ (in), 3 VCC (power), 4 NC, 5 LE (in), 6 COUT1 (oc), 7 INHIBIT (in), 8 COUT2 (oc), 9 GND (power), 10 CIN2+ (in), 11 CIN2- (in), 12 CIN1+ (in), 13 CIN1- (in), 14 REF (out), 15 POUT (out), 16 IOUT (out)

## MAX4211DETE
designator U?
High-Side Power Monitor, Open-Drain Outputs, 16-Pin TQFN, -40°C to +85°C; DatasheetVersion: Rev 1, May-2005; PackageVersion: revJ, 2011; PackageReference: T1644-4; PackageDescription: 16-Pin Thin Quad Flatpack, No-Leads (TQFN), 4 x 4 x 0.75 mm Body, 0.65 mm Pitch, Exposed Pad; Code_JEDEC: MO-220WGGC; ComponentLink1Description: Manufacturer URL; ComponentLink1URL: http://www.maxim-ic.com; ComponentLink2Description: Datasheet; ComponentLink2URL: http://datasheets.maxim-ic.com/en/ds/MAX4210-MAX4211.pdf; ComponentLink3Description: Package Specification; ComponentLink3URL: http://pdfserv.maxim-ic.com/package_dwgs/21-0139.PDF
footprint T1644-4_N (QFN, 16-Leads, Body 4x4mm, Pitch 0.65mm, Thermal Pad 2.3x2.3mm, IPC Medium Density)
footprint T1644-4_L (QFN, 16-Leads, Body 4x4mm, Pitch 0.65mm, Thermal Pad 2.3x2.3mm, IPC High Density)
footprint T1644-4_M (QFN, 16-Leads, Body 4x4mm, Pitch 0.65mm, Thermal Pad 2.3x2.3mm, IPC Low Density)
pins: 1 VCC (power), 2 IN (in), 3 LE (in), 4 COUT1 (oc), 5 INHIBIT (in), 6 COUT2 (oc), 7 GND (power), 8 CIN2+ (in), 9 CIN2- (in), 10 CIN1+ (in), 11 CIN1- (in), 12 REF (out), 13 POUT (out), 14 IOUT (out), 15 RS- (in), 16 RS+ (in), 17 EP (power)

## MAX4211DETE+
designator U?
High-Side Power Monitor, Open-Drain Outputs, 16-Pin TQFN, -40°C to +85°C, Pb-Free; DatasheetVersion: Rev 1, May-2005; PackageVersion: revK, 2011; PackageReference: T1644+4; PackageDescription: 16-Pin Thin Quad Flatpack, No-Leads (TQFN), 4 x 4 x 0.75 mm Body, 0.65 mm Pitch, Exposed Pad, Pb-Free; Code_JEDEC: MO-220WGGC; ComponentLink1Description: Manufacturer URL; ComponentLink1URL: http://www.maxim-ic.com; ComponentLink2Description: Datasheet; ComponentLink2URL: http://datasheets.maxim-ic.com/en/ds/MAX4210-MAX4211.pdf; ComponentLink3Description: Package Specification; ComponentLink3URL: http://pdfserv.maxim-ic.com/package_dwgs/21-0139.PDF
footprint T1644+4_N (QFN, 16-Leads, Body 4x4mm, Pitch 0.65mm, Thermal Pad 2.3x2.3mm, IPC Medium Density)
footprint T1644+4_L (QFN, 16-Leads, Body 4x4mm, Pitch 0.65mm, Thermal Pad 2.3x2.3mm, IPC High Density)
footprint T1644+4_M (QFN, 16-Leads, Body 4x4mm, Pitch 0.65mm, Thermal Pad 2.3x2.3mm, IPC Low Density)
pins: 1 VCC (power), 2 IN (in), 3 LE (in), 4 COUT1 (oc), 5 INHIBIT (in), 6 COUT2 (oc), 7 GND (power), 8 CIN2+ (in), 9 CIN2- (in), 10 CIN1+ (in), 11 CIN1- (in), 12 REF (out), 13 POUT (out), 14 IOUT (out), 15 RS- (in), 16 RS+ (in), 17 EP (power)

## MAX4211DETE+T
designator U?
High-Side Power Monitor, Open-Drain Outputs, 16-Pin TQFN, -40°C to +85°C, Pb-Free, Tape and Reel; DatasheetVersion: Rev 1, May-2005; PackageVersion: revK, 2011; PackageReference: T1644+4; PackageDescription: 16-Pin Thin Quad Flatpack, No-Leads (TQFN), 4 x 4 x 0.75 mm Body, 0.65 mm Pitch, Exposed Pad, Pb-Free; Code_JEDEC: MO-220WGGC; ComponentLink1Description: Manufacturer URL; ComponentLink1URL: http://www.maxim-ic.com; ComponentLink2Description: Datasheet; ComponentLink2URL: http://datasheets.maxim-ic.com/en/ds/MAX4210-MAX4211.pdf; ComponentLink3Description: Package Specification; ComponentLink3URL: http://pdfserv.maxim-ic.com/package_dwgs/21-0139.PDF
footprint T1644+4_N (QFN, 16-Leads, Body 4x4mm, Pitch 0.65mm, Thermal Pad 2.3x2.3mm, IPC Medium Density)
footprint T1644+4_L (QFN, 16-Leads, Body 4x4mm, Pitch 0.65mm, Thermal Pad 2.3x2.3mm, IPC High Density)
footprint T1644+4_M (QFN, 16-Leads, Body 4x4mm, Pitch 0.65mm, Thermal Pad 2.3x2.3mm, IPC Low Density)
pins: 1 VCC (power), 2 IN (in), 3 LE (in), 4 COUT1 (oc), 5 INHIBIT (in), 6 COUT2 (oc), 7 GND (power), 8 CIN2+ (in), 9 CIN2- (in), 10 CIN1+ (in), 11 CIN1- (in), 12 REF (out), 13 POUT (out), 14 IOUT (out), 15 RS- (in), 16 RS+ (in), 17 EP (power)

## MAX4211DETE-T
designator U?
High-Side Power Monitor, Open-Drain Outputs, 16-Pin TQFN, -40°C to +85°C, Tape and Reel; DatasheetVersion: Rev 1, May-2005; PackageVersion: revJ, 2011; PackageReference: T1644-4; PackageDescription: 16-Pin Thin Quad Flatpack, No-Leads (TQFN), 4 x 4 x 0.75 mm Body, 0.65 mm Pitch, Exposed Pad; Code_JEDEC: MO-220WGGC; ComponentLink1Description: Manufacturer URL; ComponentLink1URL: http://www.maxim-ic.com; ComponentLink2Description: Datasheet; ComponentLink2URL: http://datasheets.maxim-ic.com/en/ds/MAX4210-MAX4211.pdf; ComponentLink3Description: Package Specification; ComponentLink3URL: http://pdfserv.maxim-ic.com/package_dwgs/21-0139.PDF
footprint T1644-4_N (QFN, 16-Leads, Body 4x4mm, Pitch 0.65mm, Thermal Pad 2.3x2.3mm, IPC Medium Density)
footprint T1644-4_L (QFN, 16-Leads, Body 4x4mm, Pitch 0.65mm, Thermal Pad 2.3x2.3mm, IPC High Density)
footprint T1644-4_M (QFN, 16-Leads, Body 4x4mm, Pitch 0.65mm, Thermal Pad 2.3x2.3mm, IPC Low Density)
pins: 1 VCC (power), 2 IN (in), 3 LE (in), 4 COUT1 (oc), 5 INHIBIT (in), 6 COUT2 (oc), 7 GND (power), 8 CIN2+ (in), 9 CIN2- (in), 10 CIN1+ (in), 11 CIN1- (in), 12 REF (out), 13 POUT (out), 14 IOUT (out), 15 RS- (in), 16 RS+ (in), 17 EP (power)

## MAX4211DEUE
designator U?
High-Side Power Monitor, Open-Drain Outputs, 16-Pin TSSOP, -40°C to +85°C; DatasheetVersion: Rev 1, May-2005; PackageVersion: revL, 2010; PackageReference: U16-2; PackageDescription: 16-Pin Thin Shrink Small-Outline Package, 4.4 mm Body, TSSOP; Code_JEDEC: MO-153-AB; ComponentLink1Description: Manufacturer URL; ComponentLink1URL: http://www.maxim-ic.com; ComponentLink2Description: Datasheet; ComponentLink2URL: http://datasheets.maxim-ic.com/en/ds/MAX4210-MAX4211.pdf; ComponentLink3Description: Package Specification; ComponentLink3URL: http://pdfserv.maxim-ic.com/package_dwgs/21-0066.PDF
footprint U16-2_N (TSOP, 14-Leads, Body 5x4.4mm, Pitch 0.65mm, IPC Medium Density)
footprint U16-2_L (TSOP, 14-Leads, Body 5x4.4mm, Pitch 0.65mm, IPC High Density)
footprint U16-2_M (TSOP, 14-Leads, Body 5x4.4mm, Pitch 0.65mm, IPC Low Density)
pins: 1 RS- (in), 2 RS+ (in), 3 VCC (power), 4 IN (in), 5 LE (in), 6 COUT1 (oc), 7 INHIBIT (in), 8 COUT2 (oc), 9 GND (power), 10 CIN2+ (in), 11 CIN2- (in), 12 CIN1+ (in), 13 CIN1- (in), 14 REF (out), 15 POUT (out), 16 IOUT (out)

## MAX4211DEUE-T
designator U?
High-Side Power Monitor, Open-Drain Outputs, 16-Pin TSSOP, -40°C to +85°C, Tape and Reel; DatasheetVersion: Rev 1, May-2005; PackageVersion: revL, 2010; PackageReference: U16-2; PackageDescription: 16-Pin Thin Shrink Small-Outline Package, 4.4 mm Body, TSSOP; Code_JEDEC: MO-153-AB; ComponentLink1Description: Manufacturer URL; ComponentLink1URL: http://www.maxim-ic.com; ComponentLink2Description: Datasheet; ComponentLink2URL: http://datasheets.maxim-ic.com/en/ds/MAX4210-MAX4211.pdf; ComponentLink3Description: Package Specification; ComponentLink3URL: http://pdfserv.maxim-ic.com/package_dwgs/21-0066.PDF
footprint U16-2_N (TSOP, 14-Leads, Body 5x4.4mm, Pitch 0.65mm, IPC Medium Density)
footprint U16-2_L (TSOP, 14-Leads, Body 5x4.4mm, Pitch 0.65mm, IPC High Density)
footprint U16-2_M (TSOP, 14-Leads, Body 5x4.4mm, Pitch 0.65mm, IPC Low Density)
pins: 1 RS- (in), 2 RS+ (in), 3 VCC (power), 4 IN (in), 5 LE (in), 6 COUT1 (oc), 7 INHIBIT (in), 8 COUT2 (oc), 9 GND (power), 10 CIN2+ (in), 11 CIN2- (in), 12 CIN1+ (in), 13 CIN1- (in), 14 REF (out), 15 POUT (out), 16 IOUT (out)

## MAX4211EETE
designator U?
High-Side Power Monitor, Open-Drain Outputs, 16-Pin TQFN, -40°C to +85°C; DatasheetVersion: Rev 1, May-2005; PackageVersion: revJ, 2011; PackageReference: T1644-4; PackageDescription: 16-Pin Thin Quad Flatpack, No-Leads (TQFN), 4 x 4 x 0.75 mm Body, 0.65 mm Pitch, Exposed Pad; Code_JEDEC: MO-220WGGC; ComponentLink1Description: Manufacturer URL; ComponentLink1URL: http://www.maxim-ic.com; ComponentLink2Description: Datasheet; ComponentLink2URL: http://datasheets.maxim-ic.com/en/ds/MAX4210-MAX4211.pdf; ComponentLink3Description: Package Specification; ComponentLink3URL: http://pdfserv.maxim-ic.com/package_dwgs/21-0139.PDF
footprint T1644-4_N (QFN, 16-Leads, Body 4x4mm, Pitch 0.65mm, Thermal Pad 2.3x2.3mm, IPC Medium Density)
footprint T1644-4_L (QFN, 16-Leads, Body 4x4mm, Pitch 0.65mm, Thermal Pad 2.3x2.3mm, IPC High Density)
footprint T1644-4_M (QFN, 16-Leads, Body 4x4mm, Pitch 0.65mm, Thermal Pad 2.3x2.3mm, IPC Low Density)
pins: 1 VCC (power), 2 IN (in), 3 LE (in), 4 COUT1 (oc), 5 INHIBIT (in), 6 COUT2 (oc), 7 GND (power), 8 CIN2+ (in), 9 CIN2- (in), 10 CIN1+ (in), 11 CIN1- (in), 12 REF (out), 13 POUT (out), 14 IOUT (out), 15 RS- (in), 16 RS+ (in), 17 EP (power)

## MAX4211EETE+
designator U?
High-Side Power Monitor, Open-Drain Outputs, 16-Pin TQFN, -40°C to +85°C, Pb-Free; DatasheetVersion: Rev 1, May-2005; PackageVersion: revK, 2011; PackageReference: T1644+4; PackageDescription: 16-Pin Thin Quad Flatpack, No-Leads (TQFN), 4 x 4 x 0.75 mm Body, 0.65 mm Pitch, Exposed Pad, Pb-Free; Code_JEDEC: MO-220WGGC; ComponentLink1Description: Manufacturer URL; ComponentLink1URL: http://www.maxim-ic.com; ComponentLink2Description: Datasheet; ComponentLink2URL: http://datasheets.maxim-ic.com/en/ds/MAX4210-MAX4211.pdf; ComponentLink3Description: Package Specification; ComponentLink3URL: http://pdfserv.maxim-ic.com/package_dwgs/21-0139.PDF
footprint T1644+4_N (QFN, 16-Leads, Body 4x4mm, Pitch 0.65mm, Thermal Pad 2.3x2.3mm, IPC Medium Density)
footprint T1644+4_L (QFN, 16-Leads, Body 4x4mm, Pitch 0.65mm, Thermal Pad 2.3x2.3mm, IPC High Density)
footprint T1644+4_M (QFN, 16-Leads, Body 4x4mm, Pitch 0.65mm, Thermal Pad 2.3x2.3mm, IPC Low Density)
pins: 1 VCC (power), 2 IN (in), 3 LE (in), 4 COUT1 (oc), 5 INHIBIT (in), 6 COUT2 (oc), 7 GND (power), 8 CIN2+ (in), 9 CIN2- (in), 10 CIN1+ (in), 11 CIN1- (in), 12 REF (out), 13 POUT (out), 14 IOUT (out), 15 RS- (in), 16 RS+ (in), 17 EP (power)

## MAX4211EETE+T
designator U?
High-Side Power Monitor, Open-Drain Outputs, 16-Pin TQFN, -40°C to +85°C, Pb-Free, Tape and Reel; DatasheetVersion: Rev 1, May-2005; PackageVersion: revK, 2011; PackageReference: T1644+4; PackageDescription: 16-Pin Thin Quad Flatpack, No-Leads (TQFN), 4 x 4 x 0.75 mm Body, 0.65 mm Pitch, Exposed Pad, Pb-Free; Code_JEDEC: MO-220WGGC; ComponentLink1Description: Manufacturer URL; ComponentLink1URL: http://www.maxim-ic.com; ComponentLink2Description: Datasheet; ComponentLink2URL: http://datasheets.maxim-ic.com/en/ds/MAX4210-MAX4211.pdf; ComponentLink3Description: Package Specification; ComponentLink3URL: http://pdfserv.maxim-ic.com/package_dwgs/21-0139.PDF
footprint T1644+4_N (QFN, 16-Leads, Body 4x4mm, Pitch 0.65mm, Thermal Pad 2.3x2.3mm, IPC Medium Density)
footprint T1644+4_L (QFN, 16-Leads, Body 4x4mm, Pitch 0.65mm, Thermal Pad 2.3x2.3mm, IPC High Density)
footprint T1644+4_M (QFN, 16-Leads, Body 4x4mm, Pitch 0.65mm, Thermal Pad 2.3x2.3mm, IPC Low Density)
pins: 1 VCC (power), 2 IN (in), 3 LE (in), 4 COUT1 (oc), 5 INHIBIT (in), 6 COUT2 (oc), 7 GND (power), 8 CIN2+ (in), 9 CIN2- (in), 10 CIN1+ (in), 11 CIN1- (in), 12 REF (out), 13 POUT (out), 14 IOUT (out), 15 RS- (in), 16 RS+ (in), 17 EP (power)

## MAX4211EETE-T
designator U?
High-Side Power Monitor, Open-Drain Outputs, 16-Pin TQFN, -40°C to +85°C, Tape and Reel; DatasheetVersion: Rev 1, May-2005; PackageVersion: revJ, 2011; PackageReference: T1644-4; PackageDescription: 16-Pin Thin Quad Flatpack, No-Leads (TQFN), 4 x 4 x 0.75 mm Body, 0.65 mm Pitch, Exposed Pad; Code_JEDEC: MO-220WGGC; ComponentLink1Description: Manufacturer URL; ComponentLink1URL: http://www.maxim-ic.com; ComponentLink2Description: Datasheet; ComponentLink2URL: http://datasheets.maxim-ic.com/en/ds/MAX4210-MAX4211.pdf; ComponentLink3Description: Package Specification; ComponentLink3URL: http://pdfserv.maxim-ic.com/package_dwgs/21-0139.PDF
footprint T1644-4_N (QFN, 16-Leads, Body 4x4mm, Pitch 0.65mm, Thermal Pad 2.3x2.3mm, IPC Medium Density)
footprint T1644-4_L (QFN, 16-Leads, Body 4x4mm, Pitch 0.65mm, Thermal Pad 2.3x2.3mm, IPC High Density)
footprint T1644-4_M (QFN, 16-Leads, Body 4x4mm, Pitch 0.65mm, Thermal Pad 2.3x2.3mm, IPC Low Density)
pins: 1 VCC (power), 2 IN (in), 3 LE (in), 4 COUT1 (oc), 5 INHIBIT (in), 6 COUT2 (oc), 7 GND (power), 8 CIN2+ (in), 9 CIN2- (in), 10 CIN1+ (in), 11 CIN1- (in), 12 REF (out), 13 POUT (out), 14 IOUT (out), 15 RS- (in), 16 RS+ (in), 17 EP (power)

## MAX4211EEUE
designator U?
High-Side Power Monitor, Open-Drain Outputs, 16-Pin TSSOP, -40°C to +85°C; DatasheetVersion: Rev 1, May-2005; PackageVersion: revL, 2010; PackageReference: U16-2; PackageDescription: 16-Pin Thin Shrink Small-Outline Package, 4.4 mm Body, TSSOP; Code_JEDEC: MO-153-AB; ComponentLink1Description: Manufacturer URL; ComponentLink1URL: http://www.maxim-ic.com; ComponentLink2Description: Datasheet; ComponentLink2URL: http://datasheets.maxim-ic.com/en/ds/MAX4210-MAX4211.pdf; ComponentLink3Description: Package Specification; ComponentLink3URL: http://pdfserv.maxim-ic.com/package_dwgs/21-0066.PDF
footprint U16-2_N (TSOP, 14-Leads, Body 5x4.4mm, Pitch 0.65mm, IPC Medium Density)
footprint U16-2_L (TSOP, 14-Leads, Body 5x4.4mm, Pitch 0.65mm, IPC High Density)
footprint U16-2_M (TSOP, 14-Leads, Body 5x4.4mm, Pitch 0.65mm, IPC Low Density)
pins: 1 RS- (in), 2 RS+ (in), 3 VCC (power), 4 IN (in), 5 LE (in), 6 COUT1 (oc), 7 INHIBIT (in), 8 COUT2 (oc), 9 GND (power), 10 CIN2+ (in), 11 CIN2- (in), 12 CIN1+ (in), 13 CIN1- (in), 14 REF (out), 15 POUT (out), 16 IOUT (out)

## MAX4211EEUE+
designator U?
High-Side Power Monitor, Open-Drain Outputs, 16-Pin TSSOP, -40°C to +85°C, Pb-Free; DatasheetVersion: Rev 1, May-2005; PackageVersion: revL, 2010; PackageReference: U16+2; PackageDescription: 16-Pin Thin Shrink Small-Outline Package, 4.4 mm Body, TSSOP, Pb-Free; Code_JEDEC: MO-153-AB; ComponentLink1Description: Manufacturer URL; ComponentLink1URL: http://www.maxim-ic.com; ComponentLink2Description: Datasheet; ComponentLink2URL: http://datasheets.maxim-ic.com/en/ds/MAX4210-MAX4211.pdf; ComponentLink3Description: Package Specification; ComponentLink3URL: http://pdfserv.maxim-ic.com/package_dwgs/21-0066.PDF
footprint U16+2_N (TSOP, 14-Leads, Body 5x4.4mm, Pitch 0.65mm, IPC Medium Density)
footprint U16+2_L (TSOP, 14-Leads, Body 5x4.4mm, Pitch 0.65mm, IPC High Density)
footprint U16+2_M (TSOP, 14-Leads, Body 5x4.4mm, Pitch 0.65mm, IPC Low Density)
pins: 1 RS- (in), 2 RS+ (in), 3 VCC (power), 4 IN (in), 5 LE (in), 6 COUT1 (oc), 7 INHIBIT (in), 8 COUT2 (oc), 9 GND (power), 10 CIN2+ (in), 11 CIN2- (in), 12 CIN1+ (in), 13 CIN1- (in), 14 REF (out), 15 POUT (out), 16 IOUT (out)

## MAX4211EEUE+T
designator U?
High-Side Power Monitor, Open-Drain Outputs, 16-Pin TSSOP, -40°C to +85°C, Pb-Free, Tape and Reel; DatasheetVersion: Rev 1, May-2005; PackageVersion: revL, 2010; PackageReference: U16+2; PackageDescription: 16-Pin Thin Shrink Small-Outline Package, 4.4 mm Body, TSSOP, Pb-Free; Code_JEDEC: MO-153-AB; ComponentLink1Description: Manufacturer URL; ComponentLink1URL: http://www.maxim-ic.com; ComponentLink2Description: Datasheet; ComponentLink2URL: http://datasheets.maxim-ic.com/en/ds/MAX4210-MAX4211.pdf; ComponentLink3Description: Package Specification; ComponentLink3URL: http://pdfserv.maxim-ic.com/package_dwgs/21-0066.PDF
footprint U16+2_N (TSOP, 14-Leads, Body 5x4.4mm, Pitch 0.65mm, IPC Medium Density)
footprint U16+2_L (TSOP, 14-Leads, Body 5x4.4mm, Pitch 0.65mm, IPC High Density)
footprint U16+2_M (TSOP, 14-Leads, Body 5x4.4mm, Pitch 0.65mm, IPC Low Density)
pins: 1 RS- (in), 2 RS+ (in), 3 VCC (power), 4 IN (in), 5 LE (in), 6 COUT1 (oc), 7 INHIBIT (in), 8 COUT2 (oc), 9 GND (power), 10 CIN2+ (in), 11 CIN2- (in), 12 CIN1+ (in), 13 CIN1- (in), 14 REF (out), 15 POUT (out), 16 IOUT (out)

## MAX4211EEUE-T
designator U?
High-Side Power Monitor, Open-Drain Outputs, 16-Pin TSSOP, -40°C to +85°C, Tape and Reel; DatasheetVersion: Rev 1, May-2005; PackageVersion: revL, 2010; PackageReference: U16-2; PackageDescription: 16-Pin Thin Shrink Small-Outline Package, 4.4 mm Body, TSSOP; Code_JEDEC: MO-153-AB; ComponentLink1Description: Manufacturer URL; ComponentLink1URL: http://www.maxim-ic.com; ComponentLink2Description: Datasheet; ComponentLink2URL: http://datasheets.maxim-ic.com/en/ds/MAX4210-MAX4211.pdf; ComponentLink3Description: Package Specification; ComponentLink3URL: http://pdfserv.maxim-ic.com/package_dwgs/21-0066.PDF
footprint U16-2_N (TSOP, 14-Leads, Body 5x4.4mm, Pitch 0.65mm, IPC Medium Density)
footprint U16-2_L (TSOP, 14-Leads, Body 5x4.4mm, Pitch 0.65mm, IPC High Density)
footprint U16-2_M (TSOP, 14-Leads, Body 5x4.4mm, Pitch 0.65mm, IPC Low Density)
pins: 1 RS- (in), 2 RS+ (in), 3 VCC (power), 4 IN (in), 5 LE (in), 6 COUT1 (oc), 7 INHIBIT (in), 8 COUT2 (oc), 9 GND (power), 10 CIN2+ (in), 11 CIN2- (in), 12 CIN1+ (in), 13 CIN1- (in), 14 REF (out), 15 POUT (out), 16 IOUT (out)

## MAX4211FETE
designator U?
High-Side Power Monitor, Open-Drain Outputs, 16-Pin TQFN, -40°C to +85°C; DatasheetVersion: Rev 1, May-2005; PackageVersion: revJ, 2011; PackageReference: T1644-4; PackageDescription: 16-Pin Thin Quad Flatpack, No-Leads (TQFN), 4 x 4 x 0.75 mm Body, 0.65 mm Pitch, Exposed Pad; Code_JEDEC: MO-220WGGC; ComponentLink1Description: Manufacturer URL; ComponentLink1URL: http://www.maxim-ic.com; ComponentLink2Description: Datasheet; ComponentLink2URL: http://datasheets.maxim-ic.com/en/ds/MAX4210-MAX4211.pdf; ComponentLink3Description: Package Specification; ComponentLink3URL: http://pdfserv.maxim-ic.com/package_dwgs/21-0139.PDF
footprint T1644-4_N (QFN, 16-Leads, Body 4x4mm, Pitch 0.65mm, Thermal Pad 2.3x2.3mm, IPC Medium Density)
footprint T1644-4_L (QFN, 16-Leads, Body 4x4mm, Pitch 0.65mm, Thermal Pad 2.3x2.3mm, IPC High Density)
footprint T1644-4_M (QFN, 16-Leads, Body 4x4mm, Pitch 0.65mm, Thermal Pad 2.3x2.3mm, IPC Low Density)
pins: 1 VCC (power), 2 IN (in), 3 LE (in), 4 COUT1 (oc), 5 INHIBIT (in), 6 COUT2 (oc), 7 GND (power), 8 CIN2+ (in), 9 CIN2- (in), 10 CIN1+ (in), 11 CIN1- (in), 12 REF (out), 13 POUT (out), 14 IOUT (out), 15 RS- (in), 16 RS+ (in), 17 EP (power)

## MAX4211FETE+
designator U?
High-Side Power Monitor, Open-Drain Outputs, 16-Pin TQFN, -40°C to +85°C, Pb-Free; DatasheetVersion: Rev 1, May-2005; PackageVersion: revK, 2011; PackageReference: T1644+4; PackageDescription: 16-Pin Thin Quad Flatpack, No-Leads (TQFN), 4 x 4 x 0.75 mm Body, 0.65 mm Pitch, Exposed Pad, Pb-Free; Code_JEDEC: MO-220WGGC; ComponentLink1Description: Manufacturer URL; ComponentLink1URL: http://www.maxim-ic.com; ComponentLink2Description: Datasheet; ComponentLink2URL: http://datasheets.maxim-ic.com/en/ds/MAX4210-MAX4211.pdf; ComponentLink3Description: Package Specification; ComponentLink3URL: http://pdfserv.maxim-ic.com/package_dwgs/21-0139.PDF
footprint T1644+4_N (QFN, 16-Leads, Body 4x4mm, Pitch 0.65mm, Thermal Pad 2.3x2.3mm, IPC Medium Density)
footprint T1644+4_L (QFN, 16-Leads, Body 4x4mm, Pitch 0.65mm, Thermal Pad 2.3x2.3mm, IPC High Density)
footprint T1644+4_M (QFN, 16-Leads, Body 4x4mm, Pitch 0.65mm, Thermal Pad 2.3x2.3mm, IPC Low Density)
pins: 1 VCC (power), 2 IN (in), 3 LE (in), 4 COUT1 (oc), 5 INHIBIT (in), 6 COUT2 (oc), 7 GND (power), 8 CIN2+ (in), 9 CIN2- (in), 10 CIN1+ (in), 11 CIN1- (in), 12 REF (out), 13 POUT (out), 14 IOUT (out), 15 RS- (in), 16 RS+ (in), 17 EP (power)

## MAX4211FETE+T
designator U?
High-Side Power Monitor, Open-Drain Outputs, 16-Pin TQFN, -40°C to +85°C, Pb-Free, Tape and Reel; DatasheetVersion: Rev 1, May-2005; PackageVersion: revK, 2011; PackageReference: T1644+4; PackageDescription: 16-Pin Thin Quad Flatpack, No-Leads (TQFN), 4 x 4 x 0.75 mm Body, 0.65 mm Pitch, Exposed Pad, Pb-Free; Code_JEDEC: MO-220WGGC; ComponentLink1Description: Manufacturer URL; ComponentLink1URL: http://www.maxim-ic.com; ComponentLink2Description: Datasheet; ComponentLink2URL: http://datasheets.maxim-ic.com/en/ds/MAX4210-MAX4211.pdf; ComponentLink3Description: Package Specification; ComponentLink3URL: http://pdfserv.maxim-ic.com/package_dwgs/21-0139.PDF
footprint T1644+4_N (QFN, 16-Leads, Body 4x4mm, Pitch 0.65mm, Thermal Pad 2.3x2.3mm, IPC Medium Density)
footprint T1644+4_L (QFN, 16-Leads, Body 4x4mm, Pitch 0.65mm, Thermal Pad 2.3x2.3mm, IPC High Density)
footprint T1644+4_M (QFN, 16-Leads, Body 4x4mm, Pitch 0.65mm, Thermal Pad 2.3x2.3mm, IPC Low Density)
pins: 1 VCC (power), 2 IN (in), 3 LE (in), 4 COUT1 (oc), 5 INHIBIT (in), 6 COUT2 (oc), 7 GND (power), 8 CIN2+ (in), 9 CIN2- (in), 10 CIN1+ (in), 11 CIN1- (in), 12 REF (out), 13 POUT (out), 14 IOUT (out), 15 RS- (in), 16 RS+ (in), 17 EP (power)

## MAX4211FETE-T
designator U?
High-Side Power Monitor, Open-Drain Outputs, 16-Pin TQFN, -40°C to +85°C, Tape and Reel; DatasheetVersion: Rev 1, May-2005; PackageVersion: revJ, 2011; PackageReference: T1644-4; PackageDescription: 16-Pin Thin Quad Flatpack, No-Leads (TQFN), 4 x 4 x 0.75 mm Body, 0.65 mm Pitch, Exposed Pad; Code_JEDEC: MO-220WGGC; ComponentLink1Description: Manufacturer URL; ComponentLink1URL: http://www.maxim-ic.com; ComponentLink2Description: Datasheet; ComponentLink2URL: http://datasheets.maxim-ic.com/en/ds/MAX4210-MAX4211.pdf; ComponentLink3Description: Package Specification; ComponentLink3URL: http://pdfserv.maxim-ic.com/package_dwgs/21-0139.PDF
footprint T1644-4_N (QFN, 16-Leads, Body 4x4mm, Pitch 0.65mm, Thermal Pad 2.3x2.3mm, IPC Medium Density)
footprint T1644-4_L (QFN, 16-Leads, Body 4x4mm, Pitch 0.65mm, Thermal Pad 2.3x2.3mm, IPC High Density)
footprint T1644-4_M (QFN, 16-Leads, Body 4x4mm, Pitch 0.65mm, Thermal Pad 2.3x2.3mm, IPC Low Density)
pins: 1 VCC (power), 2 IN (in), 3 LE (in), 4 COUT1 (oc), 5 INHIBIT (in), 6 COUT2 (oc), 7 GND (power), 8 CIN2+ (in), 9 CIN2- (in), 10 CIN1+ (in), 11 CIN1- (in), 12 REF (out), 13 POUT (out), 14 IOUT (out), 15 RS- (in), 16 RS+ (in), 17 EP (power)

## MAX4211FEUE
designator U?
High-Side Power Monitor, Open-Drain Outputs, 16-Pin TSSOP, -40°C to +85°C; DatasheetVersion: Rev 1, May-2005; PackageVersion: revL, 2010; PackageReference: U16-2; PackageDescription: 16-Pin Thin Shrink Small-Outline Package, 4.4 mm Body, TSSOP; Code_JEDEC: MO-153-AB; ComponentLink1Description: Manufacturer URL; ComponentLink1URL: http://www.maxim-ic.com; ComponentLink2Description: Datasheet; ComponentLink2URL: http://datasheets.maxim-ic.com/en/ds/MAX4210-MAX4211.pdf; ComponentLink3Description: Package Specification; ComponentLink3URL: http://pdfserv.maxim-ic.com/package_dwgs/21-0066.PDF
footprint U16-2_N (TSOP, 14-Leads, Body 5x4.4mm, Pitch 0.65mm, IPC Medium Density)
footprint U16-2_L (TSOP, 14-Leads, Body 5x4.4mm, Pitch 0.65mm, IPC High Density)
footprint U16-2_M (TSOP, 14-Leads, Body 5x4.4mm, Pitch 0.65mm, IPC Low Density)
pins: 1 RS- (in), 2 RS+ (in), 3 VCC (power), 4 IN (in), 5 LE (in), 6 COUT1 (oc), 7 INHIBIT (in), 8 COUT2 (oc), 9 GND (power), 10 CIN2+ (in), 11 CIN2- (in), 12 CIN1+ (in), 13 CIN1- (in), 14 REF (out), 15 POUT (out), 16 IOUT (out)

## MAX4211FEUE+
designator U?
High-Side Power Monitor, Open-Drain Outputs, 16-Pin TSSOP, -40°C to +85°C, Pb-Free; DatasheetVersion: Rev 1, May-2005; PackageVersion: revL, 2010; PackageReference: U16+2; PackageDescription: 16-Pin Thin Shrink Small-Outline Package, 4.4 mm Body, TSSOP, Pb-Free; Code_JEDEC: MO-153-AB; ComponentLink1Description: Manufacturer URL; ComponentLink1URL: http://www.maxim-ic.com; ComponentLink2Description: Datasheet; ComponentLink2URL: http://datasheets.maxim-ic.com/en/ds/MAX4210-MAX4211.pdf; ComponentLink3Description: Package Specification; ComponentLink3URL: http://pdfserv.maxim-ic.com/package_dwgs/21-0066.PDF
footprint U16+2_N (TSOP, 14-Leads, Body 5x4.4mm, Pitch 0.65mm, IPC Medium Density)
footprint U16+2_L (TSOP, 14-Leads, Body 5x4.4mm, Pitch 0.65mm, IPC High Density)
footprint U16+2_M (TSOP, 14-Leads, Body 5x4.4mm, Pitch 0.65mm, IPC Low Density)
pins: 1 RS- (in), 2 RS+ (in), 3 VCC (power), 4 IN (in), 5 LE (in), 6 COUT1 (oc), 7 INHIBIT (in), 8 COUT2 (oc), 9 GND (power), 10 CIN2+ (in), 11 CIN2- (in), 12 CIN1+ (in), 13 CIN1- (in), 14 REF (out), 15 POUT (out), 16 IOUT (out)

## MAX4211FEUE+T
designator U?
High-Side Power Monitor, Open-Drain Outputs, 16-Pin TSSOP, -40°C to +85°C, Pb-Free, Tape and Reel; DatasheetVersion: Rev 1, May-2005; PackageVersion: revL, 2010; PackageReference: U16+2; PackageDescription: 16-Pin Thin Shrink Small-Outline Package, 4.4 mm Body, TSSOP, Pb-Free; Code_JEDEC: MO-153-AB; ComponentLink1Description: Manufacturer URL; ComponentLink1URL: http://www.maxim-ic.com; ComponentLink2Description: Datasheet; ComponentLink2URL: http://datasheets.maxim-ic.com/en/ds/MAX4210-MAX4211.pdf; ComponentLink3Description: Package Specification; ComponentLink3URL: http://pdfserv.maxim-ic.com/package_dwgs/21-0066.PDF
footprint U16+2_N (TSOP, 14-Leads, Body 5x4.4mm, Pitch 0.65mm, IPC Medium Density)
footprint U16+2_L (TSOP, 14-Leads, Body 5x4.4mm, Pitch 0.65mm, IPC High Density)
footprint U16+2_M (TSOP, 14-Leads, Body 5x4.4mm, Pitch 0.65mm, IPC Low Density)
pins: 1 RS- (in), 2 RS+ (in), 3 VCC (power), 4 IN (in), 5 LE (in), 6 COUT1 (oc), 7 INHIBIT (in), 8 COUT2 (oc), 9 GND (power), 10 CIN2+ (in), 11 CIN2- (in), 12 CIN1+ (in), 13 CIN1- (in), 14 REF (out), 15 POUT (out), 16 IOUT (out)